# EAGLE library part PS2501L-4 (library gwu_mpnl_ucat_v10)
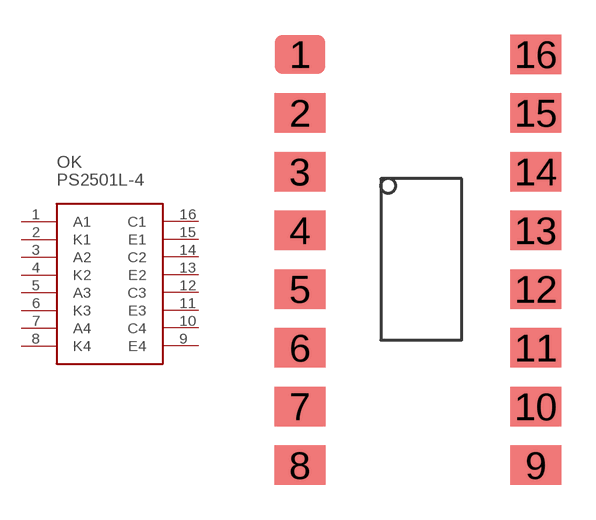
[diagram p0: symbol with the pads of PS2501L-4; footprint PS2501L-4]

Designator prefix OK

## PS2501L-4 (MF: CEL; MPN: PS2501L-4)  [PS2501L-4]
1  A1
2  K1
3  A2
4  K2
5  A3
6  K3
7  A4
8  K4
9  E4
10  C4
11  E3
12  C3
13  E2
14  C2
15  E1
16  C1

## Footprint PS2501L-4 (pad centres in mm)
smd 2.2 x 1.7: 1 -1.6,19.03; 2 -1.6,16.49; 3 -1.6,13.95; 4 -1.6,11.41; 5 -1.6,8.87; 6 -1.6,6.33; 7 -1.6,3.79; 8 -1.6,1.25; 9 8.6,1.25; 10 8.6,3.79; 11 8.6,6.33; 12 8.6,8.87; 13 8.6,11.41; 14 8.6,13.95; 15 8.6,16.49; 16 8.6,19.03